# Altium integrated library FPGA Peripherals (Wishbone).IntLib: 45 symbols (part 1 of 2)
Pins are listed as number, name and electrical type; pins without a type are passive.

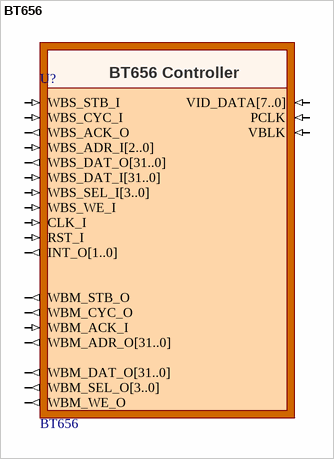
[diagram p0: symbol BT656]

## BT656
designator U?
Wishbone BT656 Controller; UseInDSF: True; ComponentLink1Description: Core &Resource Usage; ComponentLink1URL: CR0139 FPGA Peripheral Resource Usage.pdf#page=2; HelpURL: https://wiki.altium.com/display/ADOH/BT656+-+Wishbone+Video+Capture+Controller; LastRevisionNo: 1.00.00; Published: 27-Mar-2005; Publisher: Altium Limited
pins: CLK_I (in), INT_O[1..0] (out), PCLK (in), RST_I (in), VBLK (in), VID_DATA[7..0] (in), WBM_ACK_I (in), WBM_ADR_O[31..0] (out), WBM_CYC_O (out), WBM_DAT_O[31..0] (out), WBM_SEL_O[3..0] (out), WBM_STB_O (out), WBM_WE_O (out), WBS_ACK_O (out), WBS_ADR_I[2..0] (in), WBS_CYC_I (in), WBS_DAT_I[31..0] (in), WBS_DAT_O[31..0] (out), WBS_SEL_I[3..0] (in), WBS_STB_I (in), WBS_WE_I (in)
text: BT656 Controller


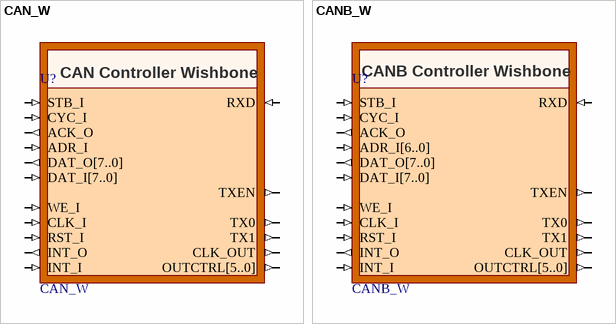
[diagram p1: symbols CAN_W to CANB_W]

## CAN_W
designator U?
CAN Controller Wishbone; ChildModel1: CAN10000_DRAM8X64; Published: 9-Dec-2004; Publisher: Altium Limited; ComponentLink1Description: Core &Resource Usage; ComponentLink1URL: CR0139 FPGA Peripheral Resource Usage.pdf#page=4; HelpURL: https://wiki.altium.com/download/attachments/3080708/CAN_W+-+Wishbone+CAN+Controller.pdf?version=1; LastRevisionNo: 1.00.00
pins: ACK_O (out), ADR_I (in), CLK_I (in), CLK_OUT (out), CYC_I (in), DAT_I[7..0] (in), DAT_O[7..0] (out), INT_I (in), INT_O (out), OUTCTRL[5..0] (out), RST_I (in), RXD (in), STB_I (in), TX0 (out), TX1 (out), TXEN (out), WE_I (in)

## CANB_W
designator U?
CAN Controller Wishbone; ChildModel1: CAN10000_DRAM8X64; Published: 9-Dec-2004; Publisher: Altium Limited; ComponentLink1Description: Core &Resource Usage; ComponentLink1URL: CR0139 FPGA Peripheral Resource Usage.pdf#page=5; HelpURL: https://wiki.altium.com/display/ADOH/CANB_W+-+Wishbone+CAN+Controller+with+Direct+Addressing; LastRevisionNo: 1.00.00
pins: ACK_O (out), ADR_I[6..0] (in), CLK_I (in), CLK_OUT (out), CYC_I (in), DAT_I[7..0] (in), DAT_O[7..0] (out), INT_I (in), INT_O (out), OUTCTRL[5..0] (out), RST_I (in), RXD (in), STB_I (in), TX0 (out), TX1 (out), TXEN (out), WE_I (in)
text: CANB Controller Wishbone


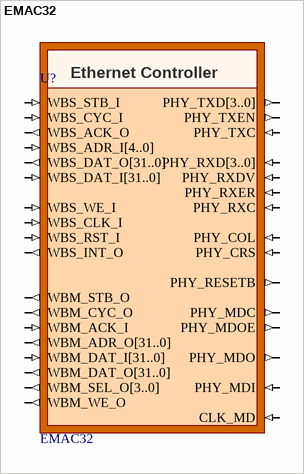
[diagram p2: symbol EMAC32]

## EMAC32
designator U?
Ethernet Controller; ChildModel1: Memory_M1_EMAC; ChildModel2: Memory_M2_EMAC; ChildModel3: Memory_M1_EMAC_prim0; ChildModel4: Memory_M2_EMAC_prim0; UseInDSF: True; ComponentLink1Description: Core &Resource Usage; ComponentLink1URL: CR0139 FPGA Peripheral Resource Usage.pdf#page=10; HelpURL: https://wiki.altium.com/display/ADOH/EMAC32+-+Wishbone+32-bit+Ethernet+Media+Access+Controller; LastRevisionNo: 1.00.00; Published: 6-Jun-2005; Publisher: Altium Limited; ConfiguratorName: EMAC32
pins: CLK_MD (in), PHY_COL (in), PHY_CRS (in), PHY_MDC (out), PHY_MDI (in), PHY_MDO (out), PHY_MDOE (out), PHY_RESETB (out), PHY_RXC (in), PHY_RXD[3..0] (in), PHY_RXDV (in), PHY_RXER (in), PHY_TXC (in), PHY_TXD[3..0] (out), PHY_TXEN (out), WBM_ACK_I (in), WBM_ADR_O[31..0] (out), WBM_CYC_O (out), WBM_DAT_I[31..0] (in), WBM_DAT_O[31..0] (out), WBM_SEL_O[3..0] (out), WBM_STB_O (out), WBM_WE_O (out), WBS_ACK_O (out), WBS_ADR_I[4..0] (in), WBS_CLK_I (in), WBS_CYC_I (in), WBS_DAT_I[31..0] (in), WBS_DAT_O[31..0] (out), WBS_INT_O (out), WBS_RST_I (in), WBS_STB_I (in), WBS_WE_I (in)


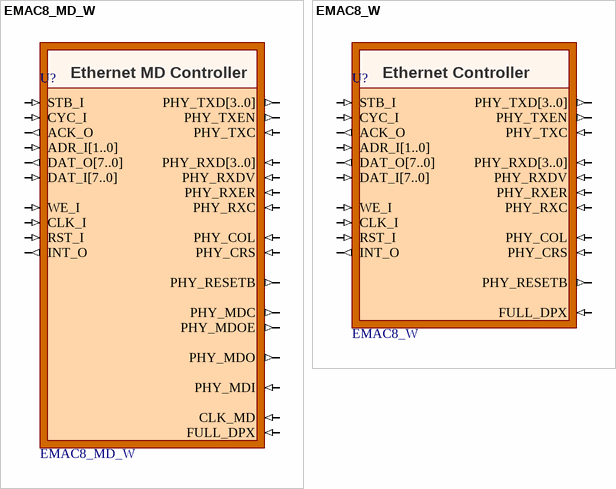
[diagram p3: symbols EMAC8_MD_W to EMAC8_W]

## EMAC8_MD_W
designator U?
Ethernet MD Controller; ChildModel1: Memory_M1_EMAC; ChildModel2: Memory_M2_EMAC; ChildModel3: Memory_M1_EMAC_prim0; ChildModel4: Memory_M2_EMAC_prim0; UseInDSF: True; Published: 11-May-2005; Publisher: Altium Limited; ComponentLink1Description: Core &Resource Usage; ComponentLink1URL: CR0139 FPGA Peripheral Resource Usage.pdf#page=8; HelpURL: https://wiki.altium.com/display/ADOH/EMAC8_MD_W+-+Wishbone+8-bit+Extended+Ethernet+Media+Access+Controller; LastRevisionNo: 1.00.00
pins: ACK_O (out), ADR_I[1..0] (in), CLK_I (in), CLK_MD (in), CYC_I (in), DAT_I[7..0] (in), DAT_O[7..0] (out), FULL_DPX (in), INT_O (out), PHY_COL (in), PHY_CRS (in), PHY_MDC (out), PHY_MDI (in), PHY_MDO (out), PHY_MDOE (out), PHY_RESETB (out), PHY_RXC (in), PHY_RXD[3..0] (in), PHY_RXDV (in), PHY_RXER (in), PHY_TXC (in), PHY_TXD[3..0] (out), PHY_TXEN (out), RST_I (in), STB_I (in), WE_I (in)

## EMAC8_W
designator U?
Ethernet Controller Wishbone; ChildModel1: Memory_M1_EMAC; ChildModel2: Memory_M2_EMAC; ChildModel3: Memory_M1_EMAC_prim0; ChildModel4: Memory_M2_EMAC_prim0; UseInDSF: True; Publisher: Altium Limited; Published: 11-May-2005; ComponentLink1Description: Core &Resource Usage; ComponentLink1URL: CR0139 FPGA Peripheral Resource Usage.pdf#page=9; HelpURL: https://wiki.altium.com/display/ADOH/EMAC8_W+-+Wishbone+8-bit+Standard+Ethernet+Media+Access+Controller; LastRevisionNo: 1.00.00
pins: ACK_O (out), ADR_I[1..0] (in), CLK_I (in), CYC_I (in), DAT_I[7..0] (in), DAT_O[7..0] (out), FULL_DPX (in), INT_O (out), PHY_COL (in), PHY_CRS (in), PHY_RESETB (out), PHY_RXC (in), PHY_RXD[3..0] (in), PHY_RXDV (in), PHY_RXER (in), PHY_TXC (in), PHY_TXD[3..0] (out), PHY_TXEN (out), RST_I (in), STB_I (in), WE_I (in)
text: Ethernet Controller


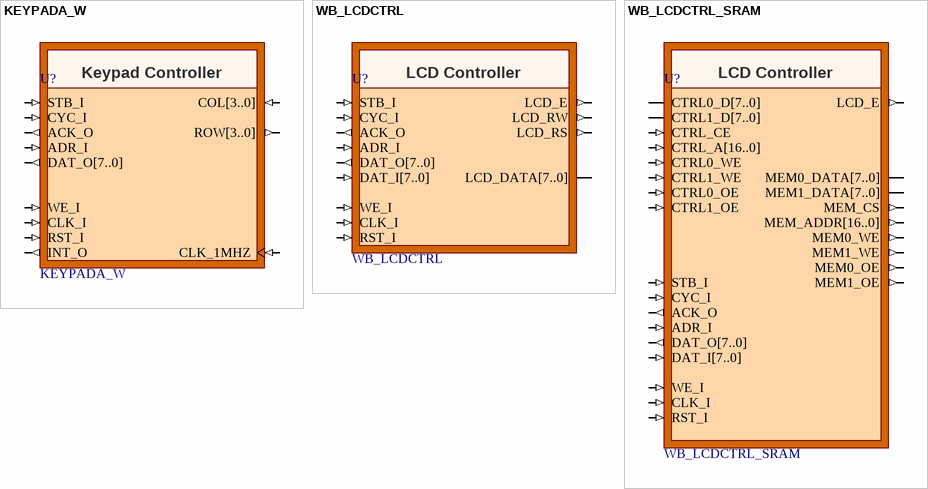
[diagram p4: symbols KEYPADA_W to WB_LCDCTRL_SRAM]

## KEYPADA_W
designator U?
Keypad Wishbone; UseInDSF: True; Published: 9-Dec-2004; Publisher: Altium Limited; LastRevisionNo: 1.00.00; HelpURL: https://wiki.altium.com/display/ADOH/KEYPADA_W+-+Wishbone+Keypad+Controller; ComponentLink1Description: Core &Resource Usage; ComponentLink1URL: CR0139 FPGA Peripheral Resource Usage.pdf#page=21
pins: ACK_O (out), ADR_I (in), CLK_1MHZ (in), CLK_I (in), COL[3..0] (in), CYC_I (in), DAT_O[7..0] (out), INT_O (out), ROW[3..0] (out), RST_I (in), STB_I (in), WE_I (in)
text: Keypad Controller

## WB_LCDCTRL
designator U?
LCD Controller Wishbone; ArchiveName: GENERIC; UseInDSF: True; Published: 9-Dec-2004; Publisher: Altium Limited; ComponentLink1Description: Core &Resource Usage; ComponentLink1URL: CR0139 FPGA Peripheral Resource Usage.pdf#page=83; HelpURL: https://wiki.altium.com/display/ADOH/WB_LCDCTRL+-+Wishbone+LCD+Controller; LastRevisionNo: 1.00.00
pins: ACK_O (out), ADR_I (in), CLK_I (in), CYC_I (in), DAT_I[7..0] (in), DAT_O[7..0] (out), LCD_DATA[7..0] (io), LCD_E (out), LCD_RS (out), LCD_RW (out), RST_I (in), STB_I (in), WE_I (in)
text: LCD Controller

## WB_LCDCTRL_SRAM
designator U?
LCD Controller Wishbone; ArchiveName: GENERIC; UseInDSF: True; Published: 9-Dec-2004; Publisher: Altium Limited; ComponentLink1Description: Core &Resource Usage; ComponentLink1URL: CR0139 FPGA Peripheral Resource Usage.pdf#page=84; HelpURL: https://wiki.altium.com/display/ADOH/WB_LCDCTRL_SRAM+-+Wishbone+LCD+Controller+with+Multiplexed+Access+to+SRAM; LastRevisionNo: 1.00.00
pins: ACK_O (out), ADR_I (in), CLK_I (in), CTRL0_D[7..0] (io), CTRL0_OE (in), CTRL0_WE (in), CTRL1_D[7..0] (io), CTRL1_OE (in), CTRL1_WE (in), CTRL_A[16..0] (in), CTRL_CE (in), CYC_I (in), DAT_I[7..0] (in), DAT_O[7..0] (out), LCD_E (out), MEM0_DATA[7..0] (io), MEM0_OE (out), MEM0_WE (out), MEM1_DATA[7..0] (io), MEM1_OE (out), MEM1_WE (out), MEM_ADDR[16..0] (out), MEM_CS (out), RST_I (in), STB_I (in), WE_I (in)
text: LCD Controller


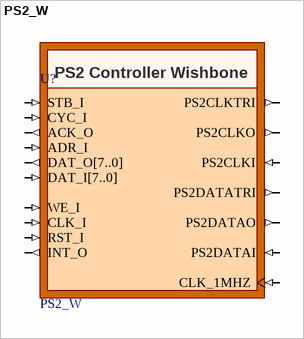
[diagram p5: symbol PS2_W]

## PS2_W
designator U?
PS2 Controller Wishbone; UseInDSF: True; Published: 9-Dec-2004; Publisher: Altium Limited; ComponentLink1Description: Core &Resource Usage; ComponentLink1URL: CR0139 FPGA Peripheral Resource Usage.pdf#page=60; HelpURL: https://wiki.altium.com/display/ADOH/PS2_W+-+Wishbone+PS2+Controller; LastRevisionNo: 1.00.00
pins: ACK_O (out), ADR_I (in), CLK_1MHZ (in), CLK_I (in), CYC_I (in), DAT_I[7..0] (in), DAT_O[7..0] (out), INT_O (out), PS2CLKI (in), PS2CLKO (out), PS2CLKTRI (out), PS2DATAI (in), PS2DATAO (out), PS2DATATRI (out), RST_I (in), STB_I (in), WE_I (in)


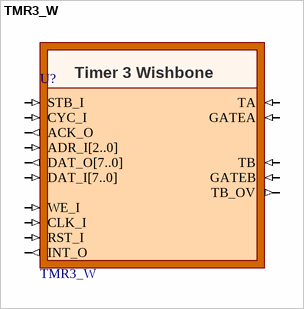
[diagram p6: symbol TMR3_W]

## TMR3_W
designator U?
Timer 3 Wishbone; Published: 9-Dec-2004; Publisher: Altium Limited; ComponentLink1Description: Core &Resource Usage; ComponentLink1URL: CR0139 FPGA Peripheral Resource Usage.pdf#page=65; HelpURL: https://wiki.altium.com/display/ADOH/TMR3_W+-+Wishbone+Dual+Timer+Unit; LastRevisionNo: 1.00.00
pins: ACK_O (out), ADR_I[2..0] (in), CLK_I (in), CYC_I (in), DAT_I[7..0] (in), DAT_O[7..0] (out), GATEA (in), GATEB (in), INT_O (out), RST_I (in), STB_I (in), TA (in), TB (in), TB_OV (out), WE_I (in)


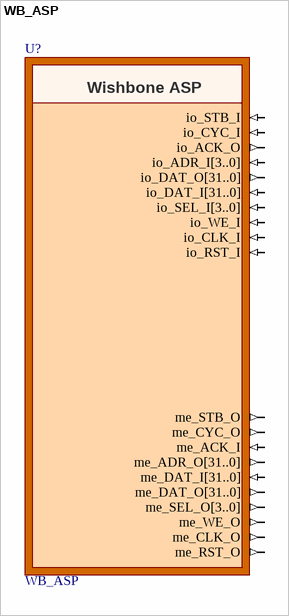
[diagram p7: symbol WB_ASP]

## WB_ASP
designator U?
Configurable Wishbone ASP; ConfigurationParameters: {}Version[1.0]{}Option_ProcessorDesignator[ ]{}Option_Functions[ ]{}Option_Variables[ ]{}Option_Offset[10]{}Option_ParameterSize[4]{}Option_Enable[True]{}; ComponentLink1Description: Core &Resource Usage; ComponentLink1URL: CR0139 FPGA Peripheral Resource Usage.pdf; HelpURL: https://wiki.altium.com/display/ADOH/WB_ASP+-+Configurable+Wishbone+Application+Specific+Processor; LastRevisionNo: 1.00.00; Published: 12-Jul-2007; Publisher: Altium Limited; ConfiguratorName: WB_ASP
pins: io_ACK_O (out), io_ADR_I[3..0] (in), io_CLK_I (in), io_CYC_I (in), io_DAT_I[31..0] (in), io_DAT_O[31..0] (out), io_RST_I (in), io_SEL_I[3..0] (in), io_STB_I (in), io_WE_I (in), me_ACK_I (in), me_ADR_O[31..0] (out), me_CLK_O (out), me_CYC_O (out), me_DAT_I[31..0] (in), me_DAT_O[31..0] (out), me_RST_O (out), me_SEL_O[3..0] (out), me_STB_O (out), me_WE_O (out)
text: Wishbone ASP


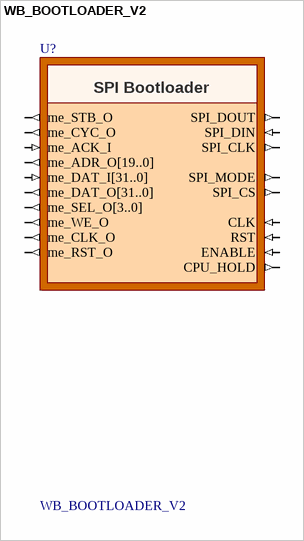
[diagram p8: symbol WB_BOOTLOADER_V2]

## WB_BOOTLOADER_V2
designator U?
SPI Bootloader Controller Wishbone; UseInDSF: True; ChildModel1: WB_SPI; Published: 9-Dec-2004; Publisher: Altium Limited; ComponentLink1Description: Core &Resource Usage; HelpURL: https://wiki.altium.com/display/ADOH/WB_BOOTLOADER_V2+-+Configurable+Wishbone+Flash+SPI+Bootloader+%28Version+2%29; LastRevisionNo: 1.05.01; LatestRevisionNote: Correction for the busy signal generation; LatestRevisionDate: 6-Sep-2005; ConfiguratorName: WB_BOOTLOADER
pins: CLK (in), CPU_HOLD (out), ENABLE (in), me_ACK_I (in), me_ADR_O[19..0] (out), me_CLK_O (out), me_CYC_O (out), me_DAT_I[31..0] (in), me_DAT_O[31..0] (out), me_RST_O (out), me_SEL_O[3..0] (out), me_STB_O (out), me_WE_O (out), RST (in), SPI_CLK (out), SPI_CS (out), SPI_DIN (in), SPI_DOUT (out), SPI_MODE (out)
text: SPI Bootloader


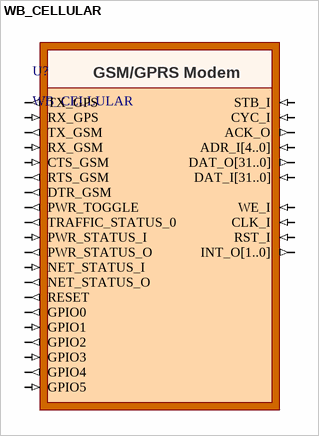
[diagram p9: symbol WB_CELLULAR]

## WB_CELLULAR
designator U?
Cellular GSM/GPRS Modem; ChildModel1: CELLULAR_INTERNAL; ConfigurationParameters: {}Version[1.0]{}ModemType[Telit]{}; UseInDSF: True; ConfiguratorName: WB_CELLULAR; LastRevisionNo: 1.00.00; Published: 17-Mar-2010; Publisher: Altium Limited; ComponentLink1Description: Core &Resource Usage
pins: ACK_O (out), ADR_I[4..0] (in), CLK_I (in), CTS_GSM (in), CYC_I (in), DAT_I[31..0] (in), DAT_O[31..0] (out), DTR_GSM (out), GPIO0 (out), GPIO1 (in), GPIO2 (out), GPIO3 (in), GPIO4 (out), GPIO5 (in), INT_O[1..0] (out), NET_STATUS_I (in), NET_STATUS_O (out), PWR_STATUS_I (in), PWR_STATUS_O (out), PWR_TOGGLE (out), RESET (out), RST_I (in), RTS_GSM (out), RX_GPS (in), RX_GSM (in), STB_I (in), TRAFFIC_STATUS_0 (out), TX_GPS (out), TX_GSM (out), WE_I (in)
text: GSM/GPRS Modem


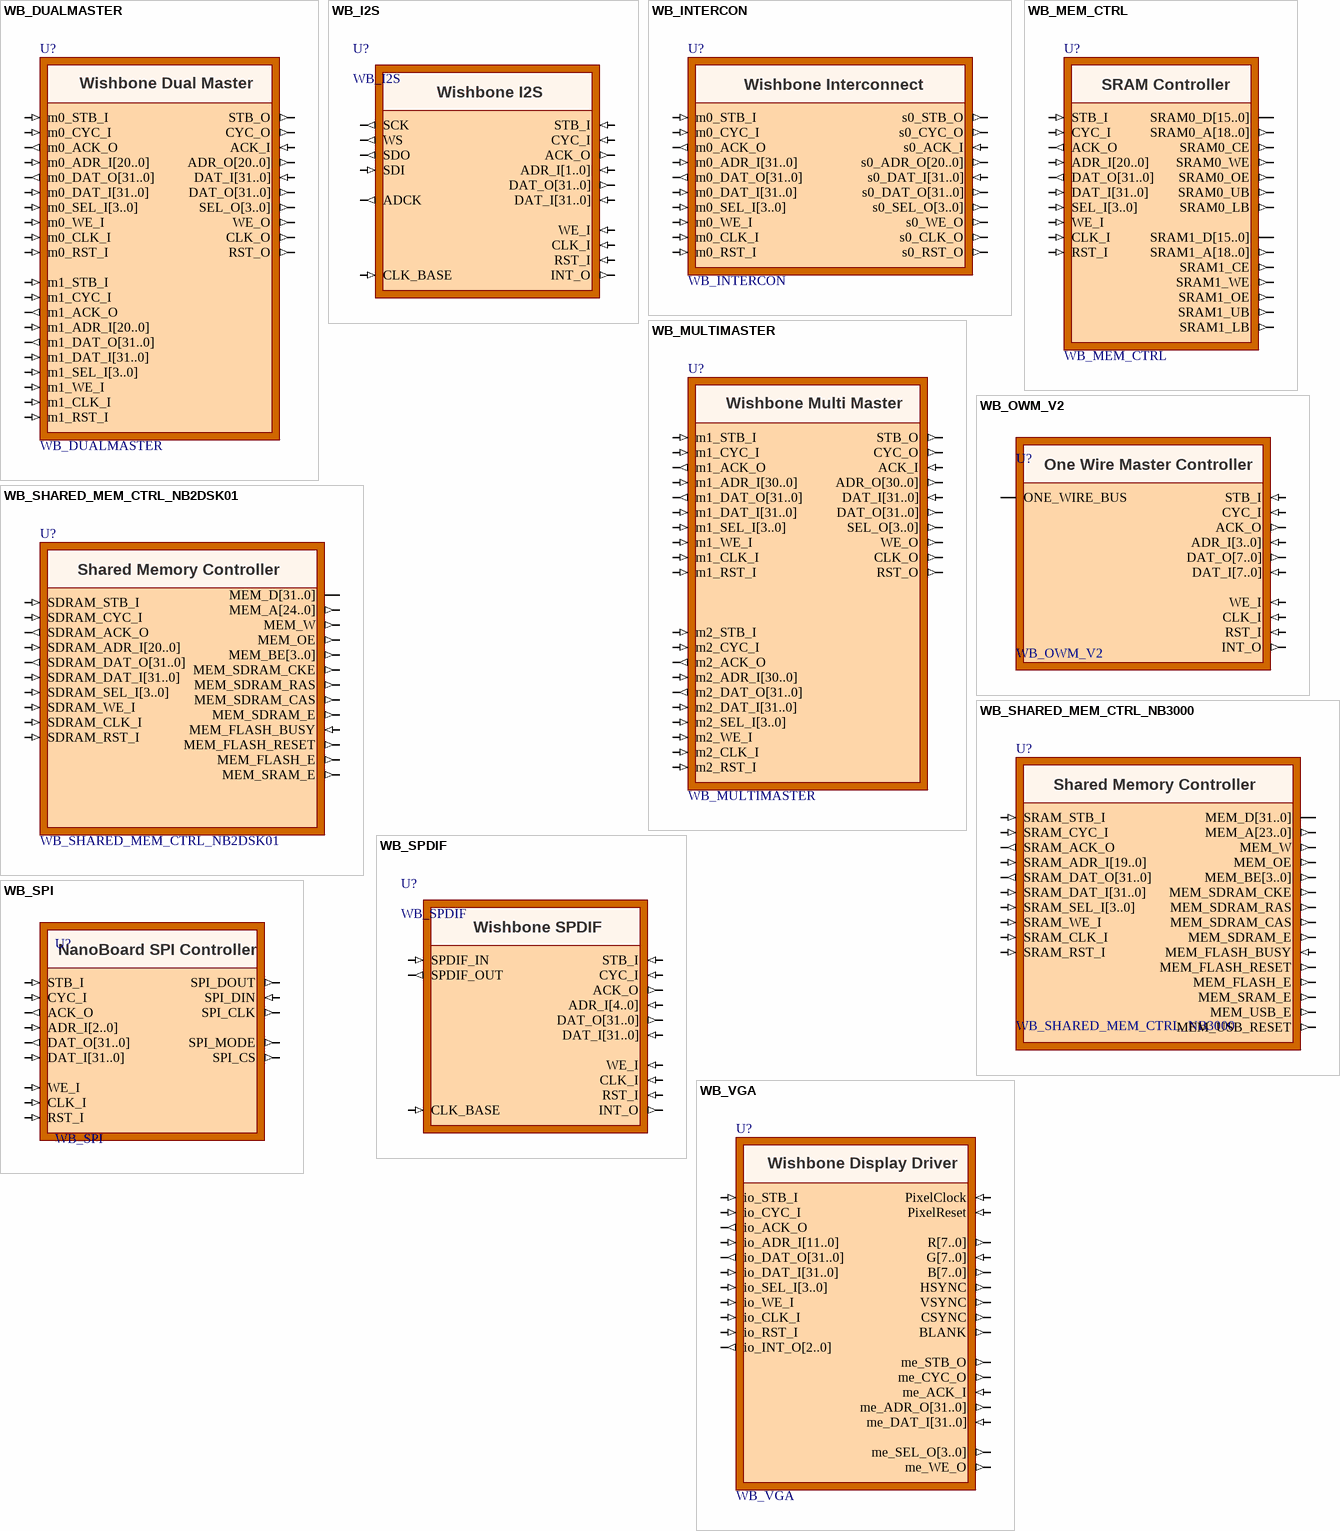
[diagram p10: symbols WB_DUALMASTER to WB_VGA]

## WB_DUALMASTER
designator U?
Configurable Wishbone Dual Master; ConfigurationParameters: {}DataWidth[0]{}AddressWidth[21]{}SpaceAfter[2]{}DualType[1]{}PriorityDevice[1]; ComponentLink1Description: Core &Resource Usage; ComponentLink1URL: CR0139 FPGA Peripheral Resource Usage.pdf#page=70; HelpURL: https://wiki.altium.com/display/ADOH/WB_DUALMASTER+-+Configurable+Wishbone+Dual+Master; LastRevisionNo: 1.00.00; Published: 9-Dec-2004; Publisher: Altium Limited; ConfiguratorName: WB_DUALMASTER
pins: ACK_I (in), ADR_O[20..0] (out), CLK_O (out), CYC_O (out), DAT_I[31..0] (in), DAT_O[31..0] (out), m0_ACK_O (out), m0_ADR_I[20..0] (in), m0_CLK_I (in), m0_CYC_I (in), m0_DAT_I[31..0] (in), m0_DAT_O[31..0] (out), m0_RST_I (in), m0_SEL_I[3..0] (in), m0_STB_I (in), m0_WE_I (in), m1_ACK_O (out), m1_ADR_I[20..0] (in), m1_CLK_I (in), m1_CYC_I (in), m1_DAT_I[31..0] (in), m1_DAT_O[31..0] (out), m1_RST_I (in), m1_SEL_I[3..0] (in), m1_STB_I (in), m1_WE_I (in), RST_O (out), SEL_O[3..0] (out), STB_O (out), WE_O (out)
text: Wishbone Dual Master

## WB_I2S
designator U?
Wishbone I2S Controller; UseInDSF: True; ConfiguratorName: WB_I2S; LastRevisionNo: 1.00.00; Published: 11-Dec-2007; Publisher: Altium Limited; HelpURL: https://wiki.altium.com/display/ADOH/WB_I2S+-+Configurable+Wishbone+Audio+Streaming+Controller
pins: ACK_O (out), ADCK (out), ADR_I[1..0] (in), CLK_BASE (in), CLK_I (in), CYC_I (in), DAT_I[31..0] (in), DAT_O[31..0] (out), INT_O (out), RST_I (in), SCK (out), SDI (in), SDO (out), STB_I (in), WE_I (in), WS (out)
text: Wishbone I2S

## WB_INTERCON
designator U?
Configurable Wishbone Interconnect; ConfigurationParameters: {}UnusedInterrupts[2]{}MasterAddressBits[0]{}Name0[Daughter_SRAM]{}Kind0[2]{}SpaceAfter0[14]{}Address_Base0[16777216]{}Address_UsedRange0[524288]{}Address_Bits0[21]{}Address_Mode0[1]{}Address_DecodeWidth0[8]{}DataWidth0[0]{}InterruptCount0[0]; ComponentLink1Description: Core &Resource Usage; ComponentLink1URL: CR0139 FPGA Peripheral Resource Usage.pdf#page=78; HelpURL: https://wiki.altium.com/display/ADOH/WB_INTERCON+-+Configurable+Wishbone+Interconnect; LastRevisionNo: 1.00.00; Published: 9-Dec-2004; Publisher: Altium Limited; ConfiguratorName: WB_INTERCON
pins: m0_ACK_O (out), m0_ADR_I[31..0] (in), m0_CLK_I (in), m0_CYC_I (in), m0_DAT_I[31..0] (in), m0_DAT_O[31..0] (out), m0_RST_I (in), m0_SEL_I[3..0] (in), m0_STB_I (in), m0_WE_I (in), s0_ACK_I (in), s0_ADR_O[20..0] (out), s0_CLK_O (out), s0_CYC_O (out), s0_DAT_I[31..0] (in), s0_DAT_O[31..0] (out), s0_RST_O (out), s0_SEL_O[3..0] (out), s0_STB_O (out), s0_WE_O (out)
text: Wishbone Interconnect

## WB_MEM_CTRL
designator U?
Configurable Memory Controller; ConfigurationParameters: {}Option_MemoryType[Asynchronous SRAM]{}Option_MemorySize[2 Mb (512K x 32-bit)]{}Option_Layout[2 x 16-bit Wide Devices]{}Option_Read[2]{}Option_WriteSetup[1]{}Option_WritePulse[1]{}Option_WriteHold[1]{}; ChildModel: WB_SDRAM_256x32; UseInDSF: True; ComponentLink1Description: Core &Resource Usage; ComponentLink1URL: CR0139 FPGA Peripheral Resource Usage.pdf#page=85; HelpURL: https://wiki.altium.com/display/ADOH/WB_MEM_CTRL+-+Configurable+Wishbone+Memory+Controller; LastRevisionNo: 1.00.00; Published: 9-Dec-2004; Publisher: Altium Limited; ConfiguratorName: WB_MEM_CTRL
pins: ACK_O (out), ADR_I[20..0] (in), CLK_I (in), CYC_I (in), DAT_I[31..0] (in), DAT_O[31..0] (out), RST_I (in), SEL_I[3..0] (in), SRAM0_A[18..0] (out), SRAM0_CE (out), SRAM0_D[15..0] (io), SRAM0_LB (out), SRAM0_OE (out), SRAM0_UB (out), SRAM0_WE (out), SRAM1_A[18..0] (out), SRAM1_CE (out), SRAM1_D[15..0] (io), SRAM1_LB (out), SRAM1_OE (out), SRAM1_UB (out), SRAM1_WE (out), STB_I (in), WE_I (in)
text: SRAM Controller

## WB_MULTIMASTER
designator U?
Configurable Wishbone Multi Master; ConfigurationParameters: {}Version[1.0]{}DataWidth[0]{}AddressWidth[31]{}SpaceAfter[4,4]{}DualType[1]{}MasterNames[m1,m2]{}PriorityDevice[1,2]{}Masters[2]{}ZeroDelay[m1]; ComponentLink1Description: Core &Resource Usage; ComponentLink1URL: CR0139 FPGA Peripheral Resource Usage.pdf#page=96; HelpURL: https://wiki.altium.com/display/ADOH/WB_MULTIMASTER+-+Configurable+Wishbone+Multi-Master; LastRevisionNo: 1.00.00; Published: 27-Mar-2005; Publisher: Altium Limited; ConfiguratorName: WB_MULTIMASTER
pins: ACK_I (in), ADR_O[30..0] (out), CLK_O (out), CYC_O (out), DAT_I[31..0] (in), DAT_O[31..0] (out), m1_ACK_O (out), m1_ADR_I[30..0] (in), m1_CLK_I (in), m1_CYC_I (in), m1_DAT_I[31..0] (in), m1_DAT_O[31..0] (out), m1_RST_I (in), m1_SEL_I[3..0] (in), m1_STB_I (in), m1_WE_I (in), m2_ACK_O (out), m2_ADR_I[30..0] (in), m2_CLK_I (in), m2_CYC_I (in), m2_DAT_I[31..0] (in), m2_DAT_O[31..0] (out), m2_RST_I (in), m2_SEL_I[3..0] (in), m2_STB_I (in), m2_WE_I (in), RST_O (out), SEL_O[3..0] (out), STB_O (out), WE_O (out)
text: Wishbone Multi Master

## WB_OWM_V2
designator U?
One Wire Controller; LastRevisionNo: 1.00; UseInDSF: True; ConfiguratorName: WB_OWM_MultiBus; ConfigurationParameters: {}Version[1.0]{}ModePinEnabled[True]{}InputPinsCount[0]{}OutputPinsCount[0]; Published: 20-Feb-2009; Publisher: Altium Limited; ComponentLink1Description: Core &Resource Usage; LatestRevisionDate: 20-Feb-2009; IsUserConfigurable: *
pins: ACK_O (out), ADR_I[3..0] (in), CLK_I (in), CYC_I (in), DAT_I[7..0] (in), DAT_O[7..0] (out), INT_O (out), ONE_WIRE_BUS (io), RST_I (in), STB_I (in), WE_I (in)
text: One Wire Master Controller

## WB_SHARED_MEM_CTRL_NB2DSK01
designator U?
Configurable Shared Memory Controller; ConfigurationParameters: {}Version[1.0]{}Option_ComponentVersion[1]{}SRAMOption_MemoryEnabled[True]{}SRAMOption_ClockScheme[0]{}SRAMOption_MemorySize[10]{}SRAMOption_MemoryLayout[0]{}SRAMOption_GuiPortLayout[0]{}SRAMOption_GuiExtraSpace[4]{}SRAMOption_AddressSetup[1]{}SRAMOption_WritePulse[1]{}SRAMOption_WriteHold[1]{}FLASHOption_MemoryEnabled[False]{}FLASHOption_ClockScheme[0]{}FLASHOption_MemorySize[0]{}FLASHOption_MemoryLayout[1]{}FLASHOption_GuiPortLayout[2]{}FLASHOption_GuiExtraSpace[4]{}FLASHOption_AddressSetup[6]{}FLASHOption_WritePulse[6]{}FLASHOption_WriteHold[6]{}SDRAMOption_MemoryEnabled[False]{}SDRAMOption_ClockScheme[0]{}SDRAMOption_MemorySize[3]{}SDRAMOption_MemoryLayout[3]{}SDRAMOption_GuiPortLayout[1]{}SDRAMOption_GuiExtraSpace[4]{}SDRAMOption_Frequency[100]{}SDRAMOption_RefreshInterval[1]{}SDRAMOption_RefreshPrescaler[145]{}SDRAMOption_BusWidth[1]{}SDRAMOption_BusMode[1]{}SDRAMOption_BusType[0]{}SDRAMOption_BurstLength[0]{}SDRAMOption_Timing_tCL[3]{}SDRAMOption_Timing_tMRD[2]{}SDRAMOption_Timing_tRCD[2]{}SDRAMOption_Timing_tRFC[2]{}SDRAMOption_Timing_tRP[2]{}SDRAMOption_Timing_tWR[2]{}SDRAMOption_KeepRowOpen[True]{}USBOption_MemoryEnabled[False]{}USBOption_ClockScheme[0]{}USBOption_MemorySize[10]{}USBOption_MemoryLayout[0]{}USBOption_GuiPortLayout[3]{}USBOption_GuiExtraSpace[4]{}USBOption_AddressSetup[1]{}USBOption_WritePulse[1]{}USBOption_WriteHold[1]{}Option_DisableUnusedPins[False]{}Option_LastView[0]{}; ComponentLink1Description: Core &Resource Usage; ComponentLink1URL: CR0139 FPGA Peripheral Resource Usage.pdf; HelpURL: https://wiki.altium.com/display/ADOH/WB_SHARED_MEM_CTRL+-+Configurable+Wishbone+Shared+Memory+Controller; LastRevisionNo: 1.00.00; Published: 8-Dec-2006; Publisher: Altium Limited; ConfiguratorName: SHARED_MEM_CTRL
pins: MEM_A[24..0] (out), MEM_BE[3..0] (out), MEM_D[31..0] (io), MEM_FLASH_BUSY (in), MEM_FLASH_E (out), MEM_FLASH_RESET (out), MEM_OE (out), MEM_SDRAM_CAS (out), MEM_SDRAM_CKE (out), MEM_SDRAM_E (out), MEM_SDRAM_RAS (out), MEM_SRAM_E (out), MEM_W (out), SDRAM_ACK_O (out), SDRAM_ADR_I[20..0] (in), SDRAM_CLK_I (in), SDRAM_CYC_I (in), SDRAM_DAT_I[31..0] (in), SDRAM_DAT_O[31..0] (out), SDRAM_RST_I (in), SDRAM_SEL_I[3..0] (in), SDRAM_STB_I (in), SDRAM_WE_I (in)
text: Shared Memory Controller

## WB_SHARED_MEM_CTRL_NB3000
designator U?
Configurable Shared Memory Controller; ConfigurationParameters: {}Version[1.0]{}Option_ComponentVersion[2]{}SRAMOption_MemoryEnabled[True]{}SRAMOption_ClockScheme[0]{}SRAMOption_MemorySize[10]{}SRAMOption_MemoryLayout[0]{}SRAMOption_GuiPortLayout[0]{}SRAMOption_GuiExtraSpace[4]{}SRAMOption_AddressSetup[1]{}SRAMOption_WritePulse[1]{}SRAMOption_WriteHold[1]{}FLASHOption_MemoryEnabled[False]{}FLASHOption_ClockScheme[0]{}FLASHOption_MemorySize[0]{}FLASHOption_MemoryLayout[1]{}FLASHOption_GuiPortLayout[2]{}FLASHOption_GuiExtraSpace[4]{}FLASHOption_AddressSetup[6]{}FLASHOption_WritePulse[6]{}FLASHOption_WriteHold[6]{}SDRAMOption_MemoryEnabled[False]{}SDRAMOption_ClockScheme[0]{}SDRAMOption_MemorySize[3]{}SDRAMOption_MemoryLayout[3]{}SDRAMOption_GuiPortLayout[1]{}SDRAMOption_GuiExtraSpace[4]{}SDRAMOption_Frequency[100]{}SDRAMOption_RefreshInterval[1]{}SDRAMOption_RefreshPrescaler[145]{}SDRAMOption_BusWidth[1]{}SDRAMOption_BusMode[1]{}SDRAMOption_BusType[0]{}SDRAMOption_BurstLength[0]{}SDRAMOption_Timing_tCL[3]{}SDRAMOption_Timing_tMRD[2]{}SDRAMOption_Timing_tRCD[2]{}SDRAMOption_Timing_tRFC[2]{}SDRAMOption_Timing_tRP[2]{}SDRAMOption_Timing_tWR[2]{}SDRAMOption_KeepRowOpen[True]{}USBOption_MemoryEnabled[False]{}USBOption_ClockScheme[0]{}USBOption_MemorySize[10]{}USBOption_MemoryLayout[0]{}USBOption_GuiPortLayout[3]{}USBOption_GuiExtraSpace[4]{}USBOption_AddressSetup[1]{}USBOption_WritePulse[1]{}USBOption_WriteHold[1]{}Option_DisableUnusedPins[False]{}Option_LastView[0]{}; ChildModel: WB_SDRAM_256x32; ComponentLink1Description: Core &Resource Usage; ComponentLink1URL: CR0139 FPGA Peripheral Resource Usage.pdf; LastRevisionNo: 1.00.00; Published: 20-Apr-2009; Publisher: Altium Limited; ConfiguratorName: SHARED_MEM_CTRL
pins: MEM_A[23..0] (out), MEM_BE[3..0] (out), MEM_D[31..0] (io), MEM_FLASH_BUSY (in), MEM_FLASH_E (out), MEM_FLASH_RESET (out), MEM_OE (out), MEM_SDRAM_CAS (out), MEM_SDRAM_CKE (out), MEM_SDRAM_E (out), MEM_SDRAM_RAS (out), MEM_SRAM_E (out), MEM_USB_E (out), MEM_USB_RESET (out), MEM_W (out), SRAM_ACK_O (out), SRAM_ADR_I[19..0] (in), SRAM_CLK_I (in), SRAM_CYC_I (in), SRAM_DAT_I[31..0] (in), SRAM_DAT_O[31..0] (out), SRAM_RST_I (in), SRAM_SEL_I[3..0] (in), SRAM_STB_I (in), SRAM_WE_I (in)
text: Shared Memory Controller

## WB_SPDIF
designator U?
Wishbone SPDIF Controller; UseInDSF: True; ConfigurationParameters: {}Version[1.0]{}Option_Channels[2]{}Option_BufferSize[0]{}Option_BufferEnabled[True]{}; ConfiguratorName: WB_SPDIF; LastRevisionNo: 1.00.00; Published: 6-Apr-2009; Publisher: Altium Limited
pins: ACK_O (out), ADR_I[4..0] (in), CLK_BASE (in), CLK_I (in), CYC_I (in), DAT_I[31..0] (in), DAT_O[31..0] (out), INT_O (out), RST_I (in), SPDIF_IN (in), SPDIF_OUT (out), STB_I (in), WE_I (in)
text: Wishbone SPDIF

## WB_SPI
designator U?
SPI Wishbone Controller; LastRevisionNo: 1.00; UseInDSF: True; ConfigurationParameters: {}Version[1.0]{}TransferSize[8]{}ModePinEnabled[True]{}SlaveCount[0]; Published: 12-Sep-2008; Publisher: Altium Limited; ComponentLink1Description: Core &Resource Usage; ComponentLink1URL: CR0139 FPGA Peripheral Resource Usage.pdf; HelpURL: https://wiki.altium.com/display/ADOH/WB_SPI+-+Wishbone+Serial+Peripheral+Interface+Controller; LatestRevisionNote: Correction for the busy signal generation; LatestRevisionDate: 12-Sep-2008; ConfiguratorName: WB_SPI; IsUserConfigurable: True
pins: ACK_O (out), ADR_I[2..0] (in), CLK_I (in), CYC_I (in), DAT_I[31..0] (in), DAT_O[31..0] (out), RST_I (in), SPI_CLK (out), SPI_CS (out), SPI_DIN (in), SPI_DOUT (out), SPI_MODE (out), STB_I (in), WE_I (in)
text: NanoBoard SPI Controller

## WB_VGA
designator U?
Wishbone Display Driver; UseInDSF: True; ConfiguratorName: WB_VGA; ComponentLink1Description: Core &Resource Usage; ComponentLink1URL: CR0139 FPGA Peripheral Resource Usage.pdf#page=46; HelpURL: https://wiki.altium.com/display/ADOH/WB_VGA+-+Configurable+Wishbone+Display+Driver; LastRevisionNo: 1.00.00; Published: 27-Mar-2005; Publisher: Altium Limited
pins: B[7..0] (out), BLANK (out), CSYNC (out), G[7..0] (in), HSYNC (out), io_ACK_O (out), io_ADR_I[11..0] (in), io_CLK_I (in), io_CYC_I (in), io_DAT_I[31..0] (in), io_DAT_O[31..0] (out), io_INT_O[2..0] (out), io_RST_I (in), io_SEL_I[3..0] (in), io_STB_I (in), io_WE_I (in), me_ACK_I (in), me_ADR_O[31..0] (out), me_CYC_O (out), me_DAT_I[31..0] (in), me_SEL_O[3..0] (out), me_STB_O (out), me_WE_O (out), PixelClock (in), PixelReset (in), R[7..0] (out), VSYNC (out)


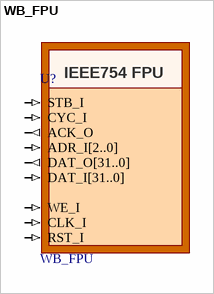
[diagram p11: symbol WB_FPU]

## WB_FPU
designator U?
IEEE754 single precision floating point unit; ComponentLink1Description: Core &Resource Usage; LastRevisionNo: 1.00.00; Published: 10-Nov-2006; Publisher: Altium Limited; ComponentLink1URL: CR0139 FPGA Peripheral Resource Usage.pdf#page=76; HelpURL: https://wiki.altium.com/display/ADOH/WB_FPU+-+Wishbone+Floating+Point+Unit
pins: ACK_O (out), ADR_I[2..0] (in), CLK_I (in), CYC_I (in), DAT_I[31..0] (in), DAT_O[31..0] (out), RST_I (in), STB_I (in), WE_I (in)
text: IEEE754 FPU


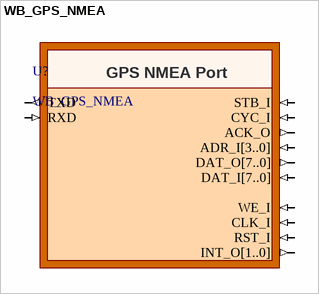
[diagram p12: symbol WB_GPS_NMEA]

## WB_GPS_NMEA
designator U?
GPS NMEA Port; ChildModel: WB_UART8_V2; UseInDSF: True; ComponentLink1Description: Core &Resource Usage; ComponentLink1URL: CR0139 FPGA Peripheral Resource Usage.pdf#page=94; LastRevisionNo: 1.00.00; Published: 17-Mar-2010; Publisher: Altium Limited
pins: ACK_O (out), ADR_I[3..0] (in), CLK_I (in), CYC_I (in), DAT_I[7..0] (in), DAT_O[7..0] (out), INT_O[1..0] (out), RST_I (in), RXD (in), STB_I (in), TXD (out), WE_I (in)


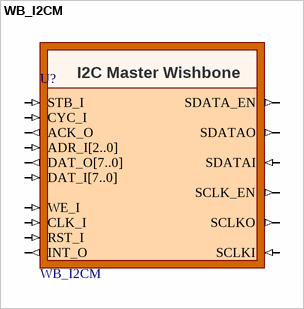
[diagram p13: symbol WB_I2CM]

## WB_I2CM
designator U?
I2C Master Wishbone; UseInDSF: True; Published: 9-Dec-2004; Publisher: Altium Limited; ComponentLink1Description: Core &Resource Usage; ComponentLink1URL: CR0139 FPGA Peripheral Resource Usage.pdf#page=17; HelpURL: https://wiki.altium.com/display/ADOH/WB_I2CM+-+Wishbone+I2C+Master+Controller; LastRevisionNo: 1.00.00
pins: ACK_O (out), ADR_I[2..0] (in), CLK_I (in), CYC_I (in), DAT_I[7..0] (in), DAT_O[7..0] (out), INT_O (out), RST_I (in), SCLK_EN (out), SCLKI (in), SCLKO (out), SDATA_EN (out), SDATAI (in), SDATAO (out), STB_I (in), WE_I (in)


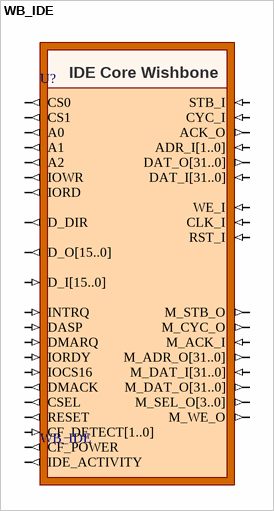
[diagram p14: symbol WB_IDE]

## WB_IDE
designator U?
IDE Core Wishbone; UseInDSF: True; ComponentLink1Description: Core &Resource Usage; LastRevisionNo: 1.00.00; Published: 8-Dec-2006; Publisher: Altium Limited; ComponentLink1URL: CR0139 FPGA Peripheral Resource Usage.pdf#page=77; HelpURL: https://wiki.altium.com/display/ADOH/WB_IDE+-+Wishbone+IDE+Interface+Controller
pins: A0 (out), A1 (out), A2 (out), ACK_O (out), ADR_I[1..0] (in), CF_DETECT[1..0] (in), CF_POWER (out), CLK_I (in), CS0 (out), CS1 (out), CSEL (out), CYC_I (in), D_DIR (out), D_I[15..0] (in), D_O[15..0] (out), DASP (in), DAT_I[31..0] (in), DAT_O[31..0] (out), DMACK (out), DMARQ (in), IDE_ACTIVITY (out), INTRQ (in), IOCS16 (in), IORD (out), IORDY (in), IOWR (out), M_ACK_I (in), M_ADR_O[31..0] (out), M_CYC_O (out), M_DAT_I[31..0] (in), M_DAT_O[31..0] (out), M_SEL_O[3..0] (out), M_STB_O (out), M_WE_O (out), RESET (out), RST_I (in), STB_I (in), WE_I (in)


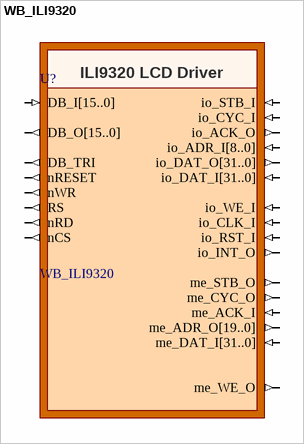
[diagram p15: symbol WB_ILI9320]

## WB_ILI9320
designator U?
ILI9320 LCD Driver; UseInDSF: True; ComponentLink1Description: Core &Resource Usage; LastRevisionNo: 1.00.00; Published: 24-Apr-2009; Publisher: Altium Limited
pins: DB_I[15..0] (in), DB_O[15..0] (out), DB_TRI (out), io_ACK_O (out), io_ADR_I[8..0] (in), io_CLK_I (in), io_CYC_I (in), io_DAT_I[31..0] (in), io_DAT_O[31..0] (out), io_INT_O (out), io_RST_I (in), io_STB_I (in), io_WE_I (in), me_ACK_I (in), me_ADR_O[19..0] (out), me_CYC_O (out), me_DAT_I[31..0] (in), me_STB_O (out), me_WE_O (out), nCS (out), nRD (out), nRESET (out), nWR (out), RS (out)


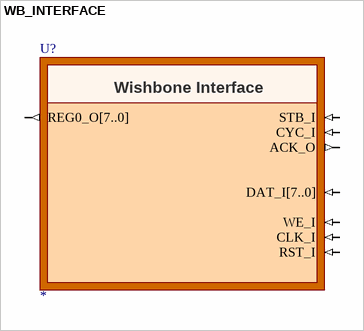
[diagram p16: symbol WB_INTERFACE]

## WB_INTERFACE
designator U?
Custom Wishbone Interface; ConfiguratorName: WB_INTERFACE; ConfigurationParameters: {}Version[1.0]{}DataBusWidth[8]{}AddrBusWidth[0]{}ItemType0[0]{}Name0[REG0]{}DataWidth0[8]{}Address0[ ]{}Space0[0]{}Acknowledge0[True]{}ItemAccessType0[0]{}; UseInDSF: False; LastRevisionNo: 1.00.00; Published: 14-Feb-2008; Publisher: Altium Limited; HelpURL: https://wiki.altium.com/display/ADOH/WB_INTERFACE+-+Custom+Wishbone+Interface
pins: ACK_O (out), CLK_I (in), CYC_I (in), DAT_I[7..0] (in), REG0_O[7..0] (out), RST_I (in), STB_I (in), WE_I (in)
text: Wishbone Interface


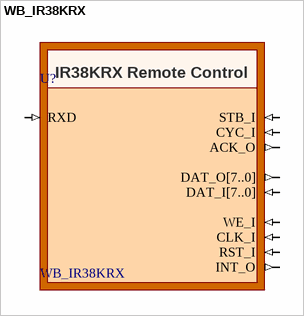
[diagram p17: symbol WB_IR38KRX]

## WB_IR38KRX
designator U?
IR38KRX Remote Control; UseInDSF: True; ComponentLink1Description: Core &Resource Usage; LastRevisionNo: 1.00.00; Published: 8-Jun-2007; Publisher: Altium Limited; ComponentLink1URL: CR0139 FPGA Peripheral Resource Usage.pdf#page=82
pins: ACK_O (out), CLK_I (in), CYC_I (in), DAT_I[7..0] (in), DAT_O[7..0] (out), INT_O (out), RST_I (in), RXD (in), STB_I (in), WE_I (in)


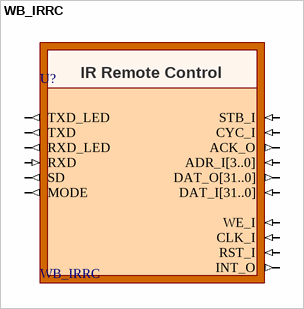
[diagram p18: symbol WB_IRRC]

## WB_IRRC
designator U?
IR Remote Controler; UseInDSF: True; ComponentLink1Description: Core &Resource Usage; LastRevisionNo: 1.00.00; Published: 8-Jun-2007; Publisher: Altium Limited; ComponentLink1URL: CR0139 FPGA Peripheral Resource Usage.pdf#page=82; HelpURL: https://wiki.altium.com/display/ADOH/WB_IRRC+-+Wishbone+Infrared+Remote+Control+Codec
pins: ACK_O (out), ADR_I[3..0] (in), CLK_I (in), CYC_I (in), DAT_I[31..0] (in), DAT_O[31..0] (out), INT_O (out), MODE (out), RST_I (in), RXD (in), RXD_LED (out), SD (out), STB_I (in), TXD (out), TXD_LED (out), WE_I (in)
text: IR Remote Control


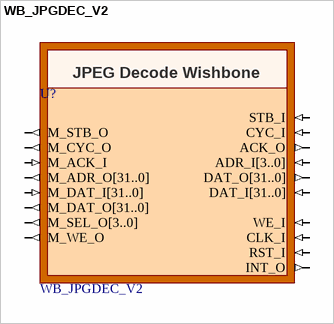
[diagram p19: symbol WB_JPGDEC_V2]

## WB_JPGDEC_V2
designator U?
JPEG Decoder Wishbone; ChildModel1: Memory_M_HUFF; ChildModel2: Memory_M_QT; ChildModel3: Memory_M_MDU; ChildModel4: Memory_M_IDCT; ChildModel5: PROCESS_SOS.MDU_ADDR_1_0_5_0_.hex; ChildModel6: Memory_M_IDCT_prim0.edn; ChildModel7: Memory_M_QT_prim0.edn; ChildModel8: Memory_M_HUFF_prim0.edn; UseInDSF: True; ChildModel9: Memory_M_MDU_prim0.edn; ChildModel10: init_file_0.hex; ComponentLink1Description: Core &Resource Usage; LastRevisionNo: 1.00.00; Published: 22-Nov-2006; Publisher: Altium Limited; ComponentLink1URL: CR0139 FPGA Peripheral Resource Usage.pdf#page=46; HelpURL: https://wiki.altium.com/display/ADOH/WB_JPGDEC_V2+-+Wishbone+JPEG+Decoder+%28Version+2%29
pins: ACK_O (out), ADR_I[3..0] (in), CLK_I (in), CYC_I (in), DAT_I[31..0] (in), DAT_O[31..0] (out), INT_O (out), M_ACK_I (in), M_ADR_O[31..0] (out), M_CYC_O (out), M_DAT_I[31..0] (in), M_DAT_O[31..0] (out), M_SEL_O[3..0] (out), M_STB_O (out), M_WE_O (out), RST_I (in), STB_I (in), WE_I (in)
text: JPEG Decode Wishbone


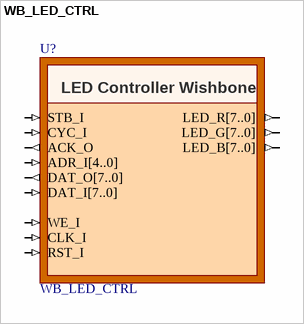
[diagram p20: symbol WB_LED_CTRL]

## WB_LED_CTRL
designator U?
Configurable LED Controller Wishbone; ConfigurationParameters: {}Version[1.0]{}NumLEDs[8]{}Bus[True]{}IsRGB[True]{}; ComponentLink1Description: Core &Resource Usage; LastRevisionNo: 1.00.00; Published: 1-May-2009; Publisher: Altium Limited; ConfiguratorName: WB_LED_CTRL
pins: ACK_O (out), ADR_I[4..0] (in), CLK_I (in), CYC_I (in), DAT_I[7..0] (in), DAT_O[7..0] (out), LED_B[7..0] (out), LED_G[7..0] (out), LED_R[7..0] (out), RST_I (in), STB_I (in), WE_I (in)
text: LED Controller Wishbone


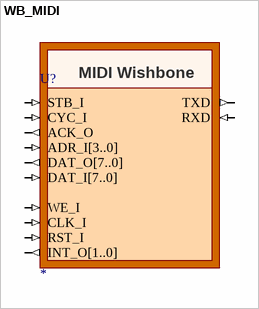
[diagram p21: symbol WB_MIDI]

## WB_MIDI
designator U?
Midi Wishbone; UseInDSF: True; ChildModel: WB_UART8_V2; LastRevisionNo: 1.00.00; Published: 6-Jun-2005; Publisher: Altium Limited; ComponentLink1Description: Core &Resource Usage; ComponentLink1URL: CR0139 FPGA Peripheral Resource Usage.pdf#page=118
pins: ACK_O (out), ADR_I[3..0] (in), CLK_I (in), CYC_I (in), DAT_I[7..0] (in), DAT_O[7..0] (out), INT_O[1..0] (out), RST_I (in), RXD (in), STB_I (in), TXD (out), WE_I (in)
text: MIDI Wishbone


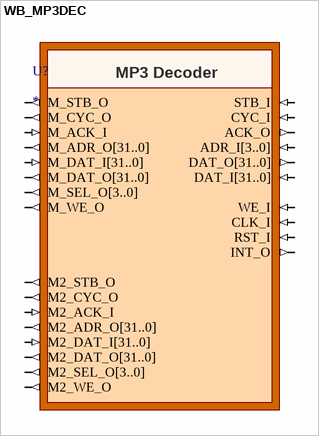
[diagram p22: symbol WB_MP3DEC]

## WB_MP3DEC
designator U?
MP3 Decoder; ChildModel1: init_file_0.hex; UseInDSF: True; ChildModel2: init_file_1.hex; ChildModel3: init_file_2.hex; ChildModel4: init_file_3.hex; ChildModel5: init_file_4.hex; ChildModel6: init_file_5.hex; ChildModel7: init_file_6.hex; ChildModel8: init_file_7.hex; ChildModel9: init_file_8.hex; ChildModel10: init_file_9.hex; ChildModel11: init_file_10.hex; ChildModel12: init_file_11.hex; ChildModel13: init_file_12.hex; ChildModel14: init_file_13.hex; ChildModel15: init_file_14.hex; ChildModel16: init_file_15.hex; ChildModel17: init_file_16.hex; ChildModel18: init_file_17.hex; ChildModel19: init_file_18.hex; ChildModel20: init_file_19.hex; ChildModel21: init_file_20.hex; ChildModel22: init_file_21.hex; ChildModel23: init_file_22.hex; ChildModel25: init_file_24.hex; ChildModel24: init_file_23.hex; ChildModel26: init_file_25.hex; ChildModel27: init_file_26.hex; ChildModel28: init_file_27.hex; ChildModel29: init_file_28.hex; ChildModel30: init_file_29.hex; ChildModel31: init_file_30.hex; ChildModel32: init_file_31.hex; ChildModel33: init_file_32.hex; ChildModel34: init_file_33.hex; ConfiguratorName: WB_MP3DEC; Published: 23-Feb-2010; Publisher: Altium Limited; HelpURL: http://wiki.altium.com/
pins: ACK_O (out), ADR_I[3..0] (in), CLK_I (in), CYC_I (in), DAT_I[31..0] (in), DAT_O[31..0] (out), INT_O (out), M2_ACK_I (in), M2_ADR_O[31..0] (out), M2_CYC_O (out), M2_DAT_I[31..0] (in), M2_DAT_O[31..0] (out), M2_SEL_O[3..0] (out), M2_STB_O (out), M2_WE_O (out), M_ACK_I (in), M_ADR_O[31..0] (out), M_CYC_O (out), M_DAT_I[31..0] (in), M_DAT_O[31..0] (out), M_SEL_O[3..0] (out), M_STB_O (out), M_WE_O (out), RST_I (in), STB_I (in), WE_I (in)
